# EAGLE library part BMA280 (library pixhawk2)
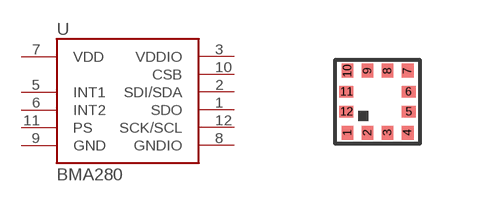
[diagram p68: symbol with the pads of BMA280; footprint BMA280]

Designator prefix -

## BMA280  [BMA280]
1  SDO
2  SDI/SDA
3  VDDIO
5  INT1
6  INT2
7  VDD
8  GNDIO
9  GND
10  CSB
11  PS
12  SCK/SCL

## Footprint BMA280 (pad centres in mm)
smd 0.3 x 0.35: 1 -0.75,-0.775; 2 -0.25,-0.775; 3 0.25,-0.775; 4 0.75,-0.775; 7 0.75,0.775; 8 0.25,0.775; 9 -0.25,0.775; 10 -0.75,0.775
smd 0.35 x 0.3: 5 0.775,-0.25; 6 0.775,0.25; 11 -0.775,0.25; 12 -0.775,-0.25